# Altium schematic symbol library 6-Transistor_PNP.SchLib: 6 symbols
Pins are listed as number, name and electrical type; pins without a type are passive.

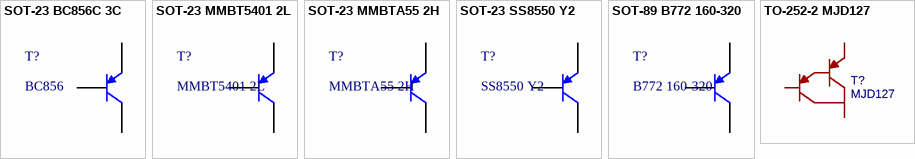
[diagram p0: symbols SOT-23 BC856C 3C to TO-252-2 MJD127]

## SOT-23 BC856C 3C
designator T?, comment BC856
三极管; ComponentLink1Description: 供应商链接; ComponentLink1URL: https://item.szlcsc.com/192542.html; Package: SOT-23; Supplier: LC; SuppliersPartNumber: C181145
footprint SOT-23
pins: 1 B, 2 E, 3 C

## SOT-23 MMBT5401 2L
designator T?, comment MMBT5401 2L
三极管; ComponentLink1Description: 供应商链接; ComponentLink1URL: http://www.szlcsc.com/product/details_8818.html; Package: SOT-23; Supplier: LC; SuppliersPartNumber: C8326
footprint SOT-23(SOT-23-3)
pins: 1 B, 2 E, 3 C

## SOT-23 MMBTA55 2H
designator T?, comment MMBTA55 2H
三极管; ComponentLink1Description: 供应商链接; ComponentLink1URL: https://item.szlcsc.com/62057.html; Package: SOT-23; Supplier: LC; SuppliersPartNumber: C61005
footprint SOT-23
pins: 1 B, 2 E, 3 C

## SOT-23 SS8550 Y2
designator T?, comment SS8550 Y2
三极管; ComponentLink1Description: 供应商链接; ComponentLink1URL: https://item.szlcsc.com/189132.html; Package: SOT-23; Supplier: LC; SuppliersPartNumber: C177740
footprint SOT-23(SOT-23-3)
pins: 1 B, 2 E, 3 C

## SOT-89 B772 160-320
designator T?, comment B772 160-320
三极管; ComponentLink1Description: 供应商链接; ComponentLink1URL: http://www.szlcsc.com/product/details_25018.html; Package: SOT-89; Supplier: LC; SuppliersPartNumber: C24278
footprint SOT-89(SOT-89-3)
pins: 1 B, 2 C, 3 E

## TO-252-2 MJD127
designator T?, comment MJD127
三极管 达林顿管; BOM_Manufacturer: CJ; SMT Type: Extend; BOM_Supplier: LCSC; BOM_Manufacturer Part: MJD127; image: //image.lceda.cn/szlcsc/C24627.jpg; BOM_Supplier Part: C24627; BOM_LCSC Assembly: Yes; spicePre: Q
footprint TO-252-2
pins: 1 B, 2 C, 3 E